# EAGLE library part 50281-026 (library con-aces-50281-series)
ACES CONNECTORS 50281 SERIES ACES Connecors 50281
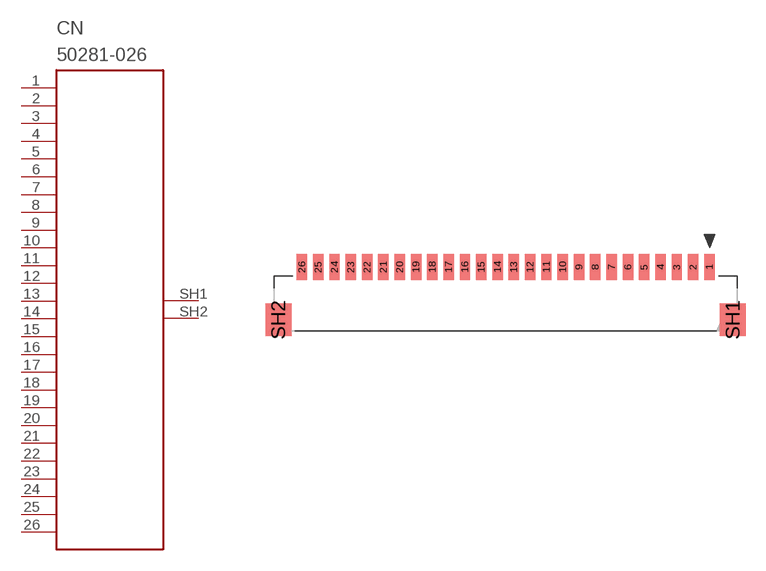
[diagram p17: symbol with the pads of 50281-026; footprint 50281-026]

Designator prefix CN

## 50281-026  [50281-026]
1  1
2  2
3  3
4  4
5  5
6  6
7  7
8  8
9  9
10  10
11  11
12  12
13  13
14  14
15  15
16  16
17  17
18  18
19  19
20  20
21  21
22  22
23  23
24  24
25  25
26  26
SH1  SH1
SH2  SH2

## Footprint 50281-026 (pad centres in mm)
smd 0.8 x 2: 1 15.625,1.9; 2 14.375,1.9; 3 13.125,1.9; 4 11.875,1.9; 5 10.625,1.9; 6 9.375,1.9; 7 8.125,1.9; 8 6.875,1.9; 9 5.625,1.9; 10 4.375,1.9; 11 3.125,1.9; 12 1.875,1.9; 13 0.625,1.9; 14 -0.625,1.9; 15 -1.875,1.9; 16 -3.125,1.9; 17 -4.375,1.9; 18 -5.625,1.9; 19 -6.875,1.9; 20 -8.125,1.9; 21 -9.375,1.9; 22 -10.625,1.9; 23 -11.875,1.9; 24 -13.125,1.9; 25 -14.375,1.9; 26 -15.625,1.9
smd 2 x 2.5: SH1 17.425,-2.15; SH2 -17.425,-2.15